# Altium schematic symbol library 93lc56bt_i_ot.SchLib: 1 symbol
Pins are listed as number, name and electrical type; pins without a type are passive.

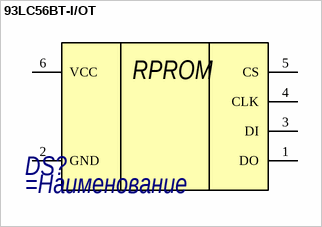
[diagram p0: symbol 93LC56BT-I/OT]

## 93LC56BT-I/OT
designator DS?
=Описание
pins: 1 DO, 2 GND, 3 DI, 4 CLK, 5 CS, 6 VCC
text: RPROM